# EAGLE library part STM32F051K6 (library synth)
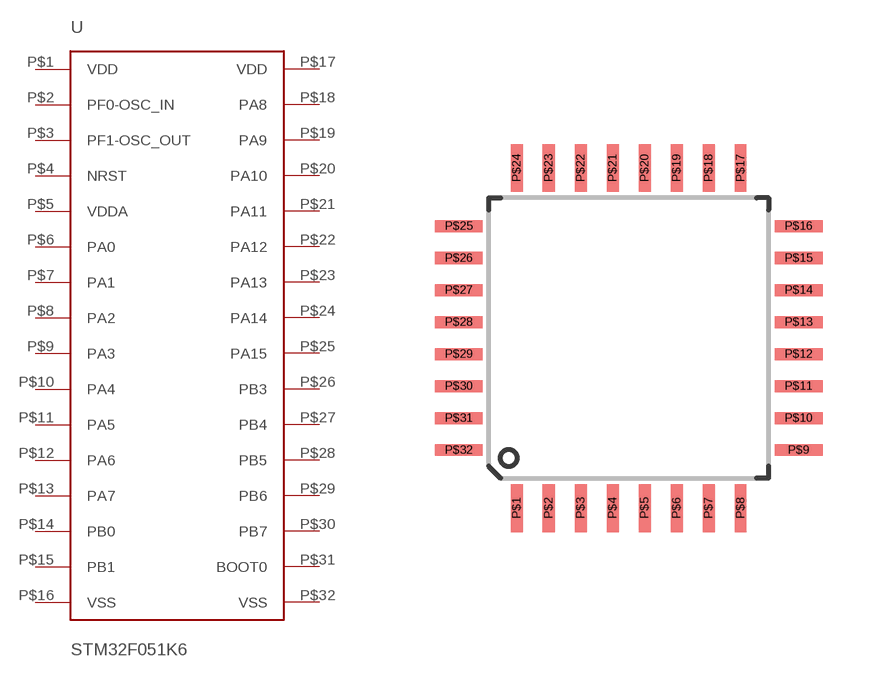
[diagram p1: symbol with the pads of LQFP32; footprint LQFP32]

Designator prefix -

## STM32F051K6  [LQFP32]
P$1  VDD
P$2  PF0-OSC_IN
P$3  PF1-OSC_OUT
P$4  NRST
P$5  VDDA
P$6  PA0
P$7  PA1
P$8  PA2
P$9  PA3
P$10  PA4
P$11  PA5
P$12  PA6
P$13  PA7
P$14  PB0
P$15  PB1
P$16  VSS
P$17  VDD
P$18  PA8
P$19  PA9
P$20  PA10
P$21  PA11
P$22  PA12
P$23  PA13
P$24  PA14
P$25  PA15
P$26  PB3
P$27  PB4
P$28  PB5
P$29  PB6
P$30  PB7
P$31  BOOT0
P$32  VSS

## Footprint LQFP32 (pad centres in mm)
smd 0.3 x 1.2: P$1 -2.8,-4.25; P$2 -2,-4.25; P$3 -1.2,-4.25; P$4 -0.4,-4.25; P$5 0.4,-4.25; P$6 1.2,-4.25; P$7 2,-4.25; P$8 2.8,-4.25; P$17 2.8,4.25; P$18 2,4.25; P$19 1.2,4.25; P$20 0.4,4.25; P$21 -0.4,4.25; P$22 -1.2,4.25; P$23 -2,4.25; P$24 -2.8,4.25
smd 1.2 x 0.3: P$9 4.25,-2.8; P$10 4.25,-2; P$11 4.25,-1.2; P$12 4.25,-0.4; P$13 4.25,0.4; P$14 4.25,1.2; P$15 4.25,2; P$16 4.25,2.8; P$25 -4.25,2.8; P$26 -4.25,2; P$27 -4.25,1.2; P$28 -4.25,0.4; P$29 -4.25,-0.4; P$30 -4.25,-1.2; P$31 -4.25,-2; P$32 -4.25,-2.8